# Altium footprint library SLA-05VDC-SL-A.PcbLib: 1 footprints
Each footprint in its own frame and in the unit in brackets; x right, y up, seen from the top. Pads: shape width x height; smd on the part's side, far side on the other; paste and mask are expansions set on the pad; w line width, h text height; cw(c..) or ccw(c..) is an arc to the next point about the centre after c.
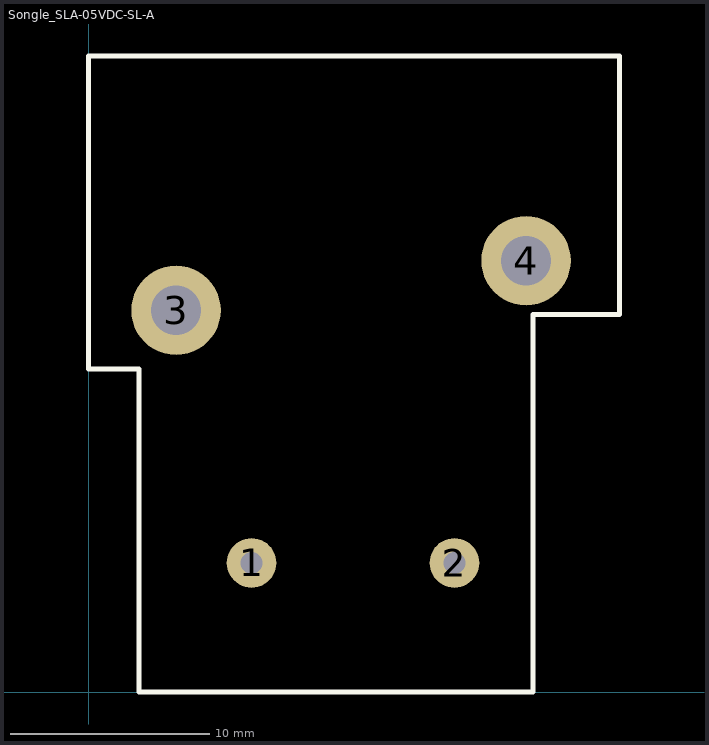
[diagram p0: the footprint, top view; thin cyan lines are the x and y axes]

## Songle_SLA-05VDC-SL-A [mm]
pads (4):
  round 2.5 hole 1.1: 1(8.2,6.5) 2(18.4,6.5)
  round 4.5 hole 2.5: 3(4.4,19.2) 4(22,21.7)
Top Overlay:
  lines w0.254: 0,31.986 0,16.256 2.54,16.256 2.54,0 22.24,0 ; 0,32 26.7,32 26.7,19 22.352,19 22.352,0